# Altium footprint library IMTP Резисторы.PcbLib: 14 footprints
Each footprint in its own frame and in the unit in brackets; x right, y up, seen from the top. Pads: shape width x height; smd on the part's side, far side on the other; paste and mask are expansions set on the pad; w line width, h text height; cw(c..) or ccw(c..) is an arc to the next point about the centre after c.
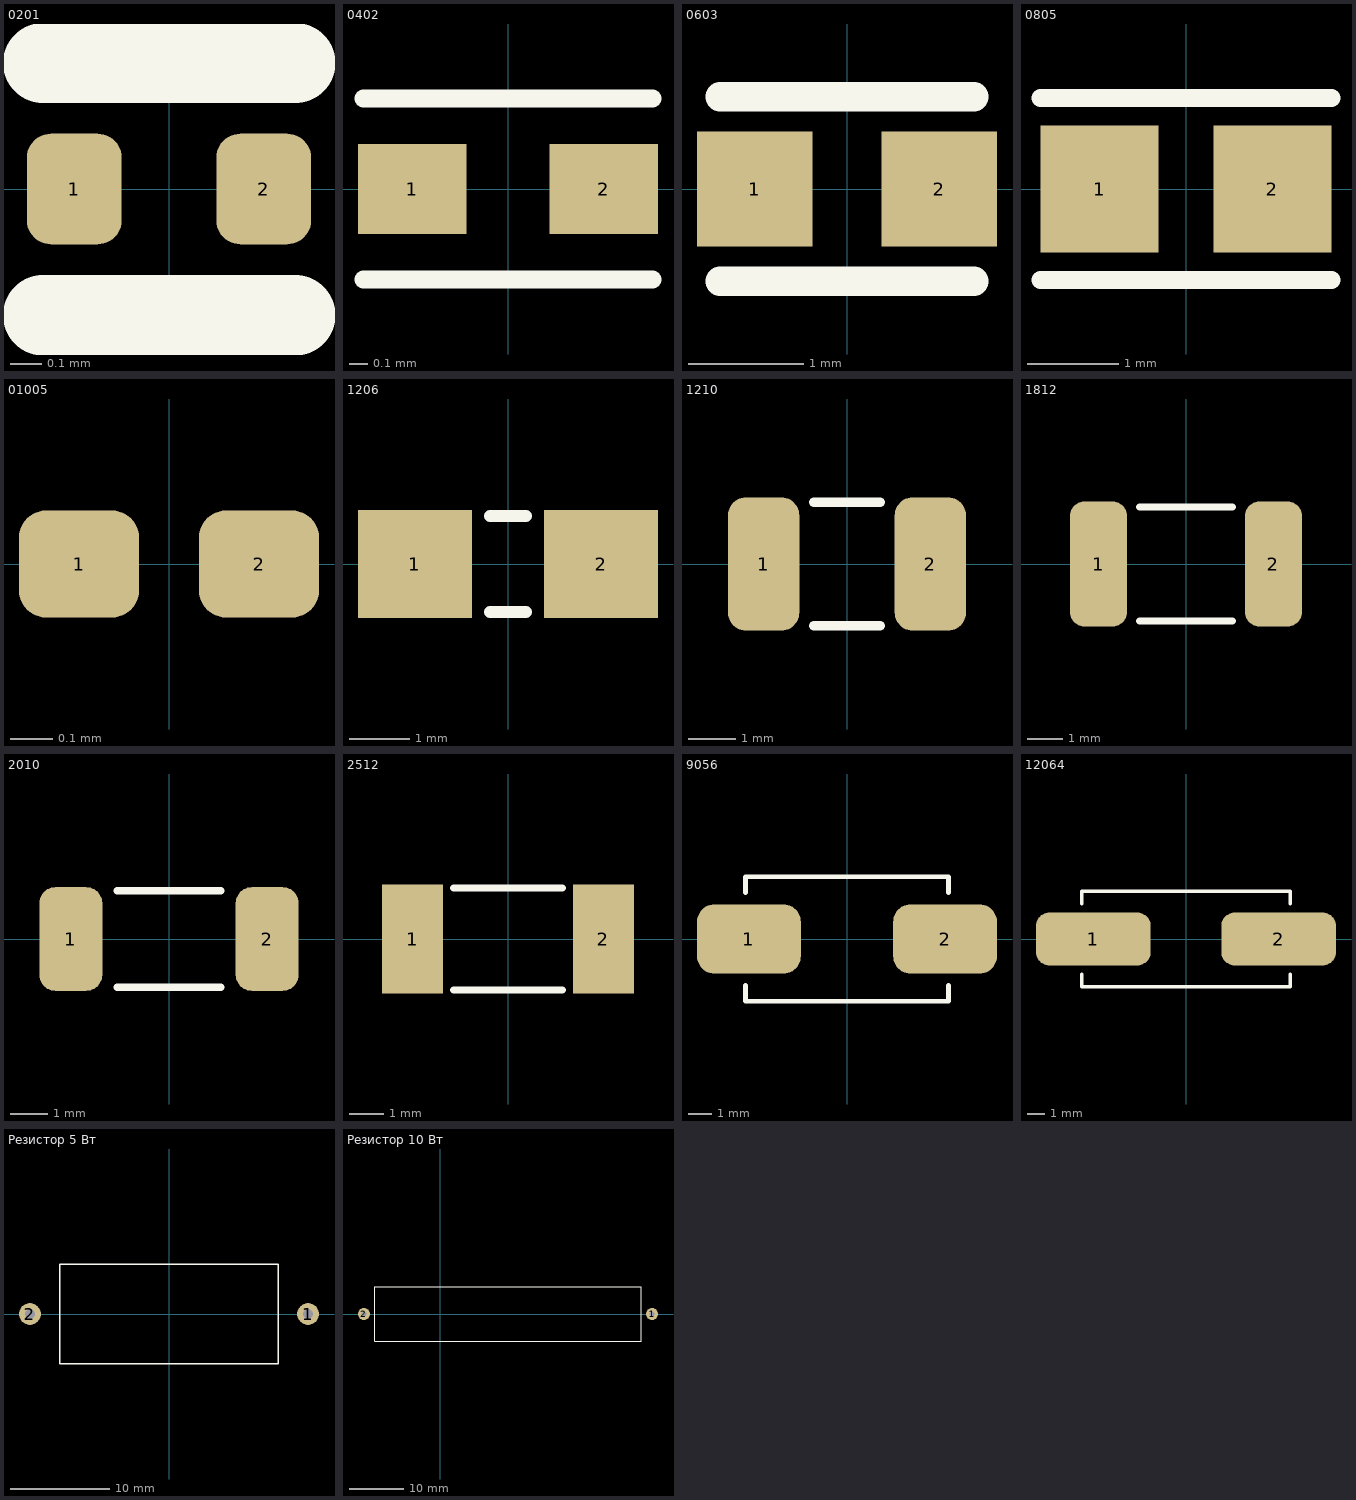
[diagram p0: the footprints below, top view; thin cyan lines are the x and y axes]

## 0201 [mm] "Чип резистор; Размер 0.6 x 0.3 мм (Д x Ш)"
height 0.3
pads (2):
  rrect50% 0.3x0.35 smd: 1(-0.3,0) 2(0.3,0)
Top Overlay:
  lines w0.254: -0.4,-0.4 0.4,-0.4 ; -0.4,0.4 0.4,0.4
3D body: height 0.19, standoff 0.01, extent -0.2,-0.15 0.2,0.15
3D body: height 0.2, standoff 0, extent -0.3,-0.15 -0.2,0.15
3D body: height 0.2, standoff 0, extent 0.2,-0.15 0.3,0.15

## 0402 [mm] "Чип резистор; Размер 1 x 0.5 мм (Д x Ш)"
height 0.55
pads (2):
  rect 0.6x0.5 smd: 1(-0.53,0) 2(0.53,0)
Top Overlay:
  lines w0.1: -0.8,-0.5 0.8,-0.5 ; -0.8,0.5 0.8,0.5
3D body: height 0.27, standoff 0, extent -0.5,-0.251 0.5,0.251

## 0603 [mm] "Чип резистор; Размер 1.6 x 0.8 мм (Д x Ш)"
height 0.55
pads (2):
  rect 1x1 smd: 1(-0.8,0) 2(0.8,0)
Top Overlay:
  lines w0.254: -1.1,-0.8 1.1,-0.8 ; -1.1,0.8 1.1,0.8
3D body: height 0.37, standoff 0, extent -0.8,-0.401 0.8,0.401

## 0805 [mm] "Чип резистор; Размер 2 x 1.3 мм (Д x Ш)"
height 0.6
pads (2):
  rect 1.3x1.4 smd: 1(-0.95,0) 2(0.95,0)
Top Overlay:
  lines w0.2: -1.6,-1 1.6,-1 ; -1.6,1 1.6,1
3D body: height 0.47, standoff 0, extent -1,-0.626 1,0.626

## 01005 [mm] "Чип резистор; Размер 0.4 x 0.2 мм (Д x Ш)"
height 0.3
pads (2):
  rrect50% 0.28x0.25 smd: 1(-0.21,0) 2(0.21,0)
3D body: height 0.14, standoff 0, extent 0.1,-0.1 0.2,0.1
3D body: height 0.13, standoff 0.01, extent -0.1,-0.1 0.1,0.1
3D body: height 0.14, standoff 0, extent -0.2,-0.1 -0.1,0.1

## 1206 [mm] "Чип резистор; Размер 3.2 x 1.6 мм (Д x Ш)"
height 0.7
pads (2):
  rect 1.9x1.8 smd: 1(-1.55,0) 2(1.55,0)
Top Overlay:
  lines w0.2: -0.3,-0.8 0.3,-0.8 ; -0.3,0.8 0.3,0.8
3D body: height 0.47, standoff 0, extent -1.55,-0.776 1.55,0.776

## 1210 [mm] "Чип резистор; Размер 3.2 x 2.5 мм (Д x Ш)"
height 0.7
pads (2):
  rrect50% 1.5x2.8 smd: 1(-1.75,0) 2(1.75,0)
Top Overlay:
  lines w0.2: -0.7,-1.3 0.7,-1.3 ; -0.7,1.3 0.7,1.3
3D body: height 0.47, standoff 0, extent -1.55,-1.301 1.55,1.301

## 1812 [mm] "Чип резистор; Размер 4.5 x 3.2 мм (Д x Ш)"
height 0.7
pads (2):
  rrect50% 1.6x3.5 smd: 1(-2.45,0) 2(2.45,0)
Top Overlay:
  lines w0.2: -1.3,-1.6 1.3,-1.6 ; -1.3,1.6 1.3,1.6
3D body: height 0.6, standoff 0, extent -2,-1.45 -1.75,1.45
3D body: height 0.6, standoff 0, extent -2.25,-1.675 -2,1.675
3D body: height 0.6, standoff 0, extent 1.75,-1.45 2,1.45
3D body: height 0.6, standoff 0, extent 2,-1.675 2.25,1.675
3D body: height 0.59, standoff 0.26, extent -1.75,-1.675 1.75,1.675
3D body: height 0.55, standoff 0.05, extent -2.2,-1.7 2.2,1.7

## 2010 [mm] "Чип резистор; Размер 5 x 2.5 мм (Д x Ш)"
height 0.7
pads (2):
  rrect50% 1.7x2.8 smd: 1(-2.65,0) 2(2.65,0)
Top Overlay:
  lines w0.2: -1.4,-1.3 1.4,-1.3 ; -1.4,1.3 1.4,1.3
3D body: height 0.47, standoff 0, extent -2.5,-1.251 2.5,1.251

## 2512 [mm] "Чип резистор; Размер 6.4 x 3.2 мм (Д x Ш)"
height 0.7
pads (2):
  rect 1.8x3.2 smd: 1(-2.8,0) 2(2.8,0)
Top Overlay:
  lines w0.2: -1.6,-1.5 1.6,-1.5 ; -1.6,1.5 1.6,1.5
3D body: height 0.47, standoff 0, extent -3.175,-1.601 3.175,1.601

## 9056 [mm] "Чип резистор; Размер 9.0 x 5.6 мм (Д x Ш)"
height 0.7
pads (2):
  rrect50% 4.5x3 smd: 1(-4.25,0) 2(4.25,0)
Top Overlay:
  lines w0.2: -4.4,-2 -4.4,-2.7 4.4,-2.7 4.4,-2 ; -4.4,2 -4.4,2.7 ; 4.4,2 4.4,2.7 -4.4,2.7 ; -4.4,2.7 -4.4,2.7
3D body: height 5, standoff 0.1, extent -4.5,-2.8 4.5,2.8
3D body: height 0.2, standoff 0, extent 3.2,-0.7 6.2,0.7
3D body: height 0.2, standoff 0, extent -6.2,-0.7 -3.2,0.7
3D body: height 2.8, standoff 0, extent -6.2,-0.7 -6,0.7
3D body: height 2.8, standoff 0, extent 6,-0.7 6.2,0.7
3D body: height 2.8, standoff 2.2, extent -6.1,-0.299 6.1,0.299
3D body: height 4.49, standoff 0.5, extent -4.6,-1.998 4.6,1.994

## 12064 [mm] "Чип резистор; Размер 12.0 x 6.4 мм (Д x Ш)"
height 0.7
pads (2):
  rrect50% 6.5x3 smd: 1(-5.25,0) 2(5.25,0)
Top Overlay:
  lines w0.2: -5.9,-2 -5.9,-2.7 5.9,-2.7 5.9,-2 ; -5.9,2 -5.9,2.686 ; -5.9,2.7 5.9,2.7 5.9,2
3D body: height 5.31, standoff 0.33, extent -6.1,-2.496 6.1,2.494
3D body: height 3.22, standoff 2.62, extent -7.4,-0.299 7.4,0.299
3D body: height 3.2, standoff 0, extent 7.3,-0.7 7.5,0.7
3D body: height 3.2, standoff 0, extent -7.5,-0.7 -7.3,0.7
3D body: height 0.2, standoff 0, extent -7.5,-0.7 -3.7,0.7
3D body: height 0.2, standoff 0, extent 3.5,-0.7 7.5,0.7
3D body: height 5.8, standoff 0.1, extent -6,-2.8 6,2.8

## Резистор 5 Вт [mm]
height 10
pads (2):
  round 2.2 hole 1: 1(14,0) 2(-14,0)
Top Overlay:
  lines w0.15: -11,-5 11,-5 11,5 -11,5 -11,-5
3D body: height 10, standoff 0.1, extent -11,-5 11,5
3D body: height 5, standoff 4, extent -14.5,-0.5 -10.5,0.5
3D body: height 5, standoff 4, extent 10.5,-0.5 14.5,0.5
3D body: height 5, standoff -3, extent -14.5,-0.5 -13.5,0.5
3D body: height 5, standoff -3, extent 13.5,-0.5 14.5,0.5

## Резистор 10 Вт [mm]
height 10
pads (2):
  round 2.2 hole 1: 1(39,0) 2(-14,0)
Top Overlay:
  lines w0.15: -12,-5 -12,5 37,5 37,-5 -12,-5
3D body: height 5, standoff -3, extent 38.5,-0.5 39.5,0.5
3D body: height 5, standoff -3, extent -14.5,-0.5 -13.5,0.5
3D body: height 5, standoff 4, extent 35.5,-0.5 39.5,0.5
3D body: height 5, standoff 4, extent -14.5,-0.5 -10.5,0.5
3D body: height 10, standoff 0.1, extent -12,-5 37,5